# EAGLE library part BCM48BT24T (library BCM48BT24)
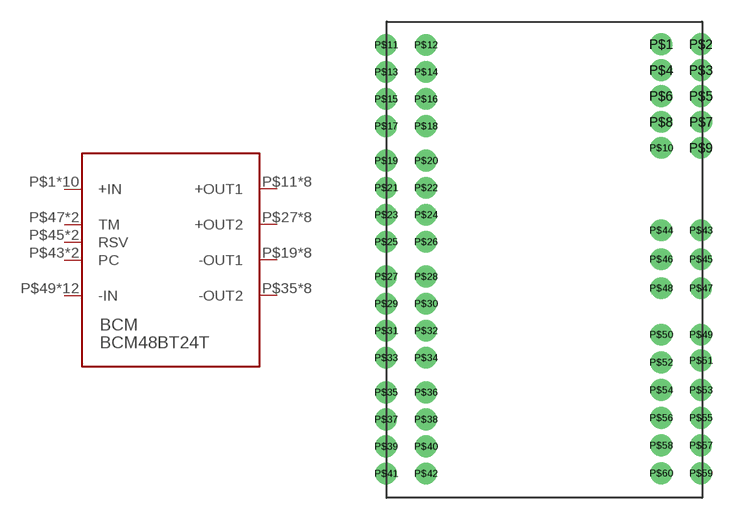
[diagram p0: symbol with the pads of BCM48BT24T; footprint BCM48BT24T]

Designator prefix BCM

## BCM48BT24T  [BCM48BT24T]
P$1  +IN  in
P$2  +IN  in
P$3  +IN  in
P$4  +IN  in
P$5  +IN  in
P$6  +IN  in
P$7  +IN  in
P$8  +IN  in
P$9  +IN  in
P$10  +IN  in
P$11  +OUT1  out
P$12  +OUT1  out
P$13  +OUT1  out
P$14  +OUT1  out
P$15  +OUT1  out
P$16  +OUT1  out
P$17  +OUT1  out
P$18  +OUT1  out
P$19  -OUT1  out
P$20  -OUT1  out
P$21  -OUT1  out
P$22  -OUT1  out
P$23  -OUT1  out
P$24  -OUT1  out
P$25  -OUT1  out
P$26  -OUT1  out
P$27  +OUT2  out
P$28  +OUT2  out
P$29  +OUT2  out
P$30  +OUT2  out
P$31  +OUT2  out
P$32  +OUT2  out
P$33  +OUT2  out
P$34  +OUT2  out
P$35  -OUT2  out
P$36  -OUT2  out
P$37  -OUT2  out
P$38  -OUT2  out
P$39  -OUT2  out
P$40  -OUT2  out
P$41  -OUT2  out
P$42  -OUT2  out
P$43  PC
P$44  PC
P$45  RSV
P$46  RSV
P$47  TM
P$48  TM
P$49  -IN  in
P$50  -IN  in
P$51  -IN  in
P$52  -IN  in
P$53  -IN  in
P$54  -IN  in
P$55  -IN  in
P$56  -IN  in
P$57  -IN  in
P$58  -IN  in
P$59  -IN  in
P$60  -IN  in

## Footprint BCM48BT24T (pad centres in mm)
drill 0.99 pad 1.5: P$1 7.95,14.89; P$2 10.7,14.89; P$3 10.7,13.1; P$4 7.95,13.1; P$5 10.7,11.31; P$6 7.95,11.31; P$7 10.719,9.52; P$8 7.95,9.52; P$9 10.7,7.73; P$10 7.95,7.73; P$11 -11.04,14.85; P$12 -8.29,14.85; P$13 -11.04,12.98; P$14 -8.29,12.98; P$15 -11.04,11.11; P$16 -8.29,11.11; P$17 -11.04,9.24; P$18 -8.29,9.24; P$19 -11.04,6.85; P$20 -8.29,6.85; P$21 -11.04,4.98; P$22 -8.29,4.98; P$23 -11.04,3.11; P$24 -8.29,3.11; P$25 -11.04,1.24; P$26 -8.29,1.24; P$27 -11.04,-1.16; P$28 -8.29,-1.16; P$29 -11.04,-3.03; P$30 -8.29,-3.03; P$31 -11.04,-4.9; P$32 -8.29,-4.9; P$33 -11.04,-6.77; P$34 -8.29,-6.77; P$35 -11.04,-9.16; P$36 -8.29,-9.16; P$37 -11.04,-11.03; P$38 -8.29,-11.03; P$39 -11.04,-12.9; P$40 -8.29,-12.9; P$41 -11.04,-14.77; P$42 -8.29,-14.77; P$43 10.7,2.04; P$44 7.95,2.04; P$45 10.7,0.04; P$46 7.95,0.04; P$47 10.7,-1.96; P$48 7.95,-1.96; P$49 10.7,-5.17; P$50 7.95,-5.17; P$51 10.7,-6.96; P$52 7.95,-7.09; P$53 10.7,-9; P$54 7.95,-9; P$55 10.7,-10.92; P$56 7.95,-10.92; P$57 10.7,-12.83; P$58 7.95,-12.83; P$59 10.7,-14.75; P$60 7.95,-14.75